# EAGLE library part JOYSTICK (library joystick)
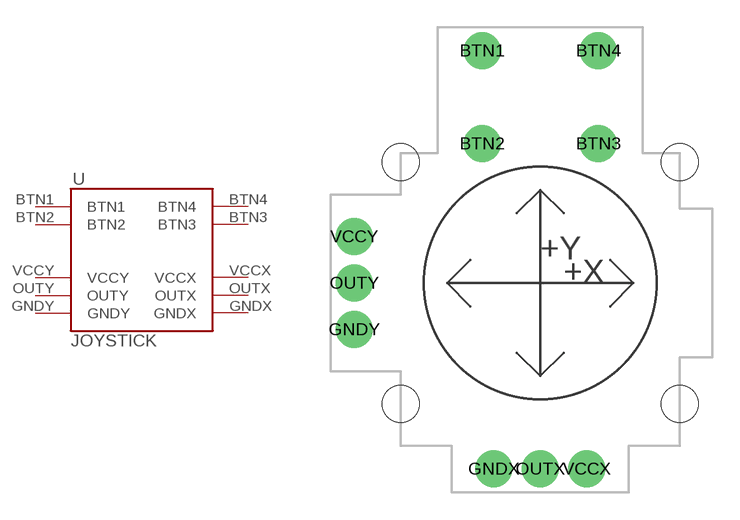
[diagram p0: symbol with the pads of JOYSTICK; footprint JOYSTICK]

Designator prefix -

## JOYSTICKJOYSTICKWBTN  [JOYSTICK]
BTN1  BTN1
BTN2  BTN2
BTN3  BTN3
BTN4  BTN4
GNDX  GNDX
GNDY  GNDY
OUTX  OUTX
OUTY  OUTY
VCCX  VCCX
VCCY  VCCY

## Footprint JOYSTICK (pad centres in mm)
drill 1.016 pad 2.032: BTN1 -3.175,12.7; BTN2 -3.175,7.62; BTN3 3.175,7.62; BTN4 3.175,12.7; GNDX -2.54,-10.16; GNDY -10.16,-2.54; OUTX 0,-10.16; OUTY -10.16,0; VCCX 2.54,-10.16; VCCY -10.16,2.54
hole 2.032 at -7.62,6.604
hole 2.032 at -7.62,-6.604
hole 2.032 at 7.62,6.604
hole 2.032 at 7.62,-6.604